# Altium footprint library 662104136022.PcbLib: 1 footprints
Each footprint in its own frame and in the unit in brackets; x right, y up, seen from the top. Pads: shape width x height; smd on the part's side, far side on the other; paste and mask are expansions set on the pad; w line width, h text height; cw(c..) or ccw(c..) is an arc to the next point about the centre after c.
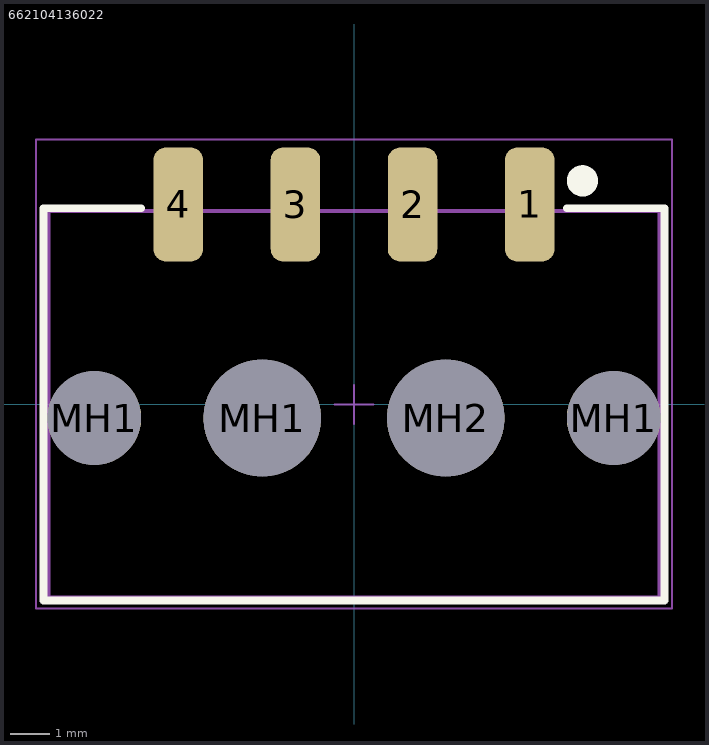
[diagram p0: the footprint, top view; thin cyan lines are the x and y axes]

## 662104136022 [mm]
pads (8):
  rrect50% 1.27x2.92 smd: 1(4.5,5.12) 2(1.5,5.12) 3(-1.5,5.12) 4(-4.5,5.12)
  round 2.4 hole 2.4 unplated: MH1(-6.65,-0.35) MH1(6.65,-0.35)
  round 3 hole 3 unplated: MH1(-2.35,-0.35) MH2(2.35,-0.35)
Top Overlay:
  circle w0.4: c5.85,5.725 r0.2
  lines w0.2: -5.45,5.025 -7.95,5.025 -7.95,-5.025 7.95,-5.025 7.95,5.025 5.45,5.025
Top Assembly:
  lines w0.1: -7.825,-4.95 -7.825,4.95 7.825,4.95 7.825,-4.95 -7.825,-4.95
Top Courtyard:
  lines w0.05: -0.5,0 0.5,0 ; 0,-0.5 0,0.5 ; -8.15,-5.225 -8.15,6.78 8.15,6.78 8.15,-5.225 -8.15,-5.225
3D body "662104136022.stp": height 5.6, standoff -3.17, extent -7.825,-4.95 7.825,6.398